# EAGLE library part FDMS7558S (library transistor-fet)
N-Channel PowerTrench SyncFET 25 V, 49 A, 1.25 mega-ohm
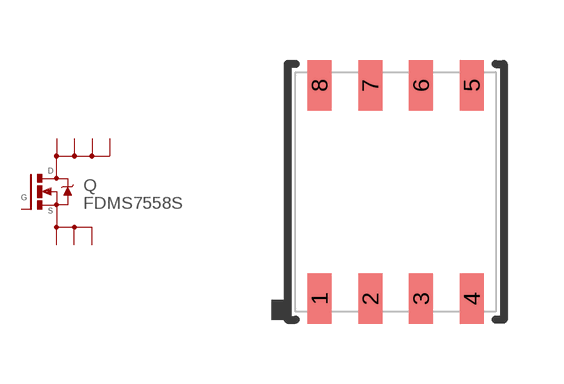
[diagram p17: symbol with the pads of POWER56; footprint POWER56]

Designator prefix Q

## FDMS7558S  [POWER56]
1  S1  pas
2  S2  pas
3  S3  pas
4  G  pas
5  D1  pas
6  D2  pas
7  D3  pas
8  D4  pas

## Footprint POWER56 (pad centres in mm)
Power56
smd 0.6 x 1.27: 1 -1.905,-2.67; 2 -0.635,-2.67; 3 0.635,-2.67; 4 1.905,-2.67; 5 1.905,2.67; 6 0.635,2.67; 7 -0.635,2.67; 8 -1.905,2.67